# EAGLE library part FT232R (library icmi-ics)
FT232R USB UART IC
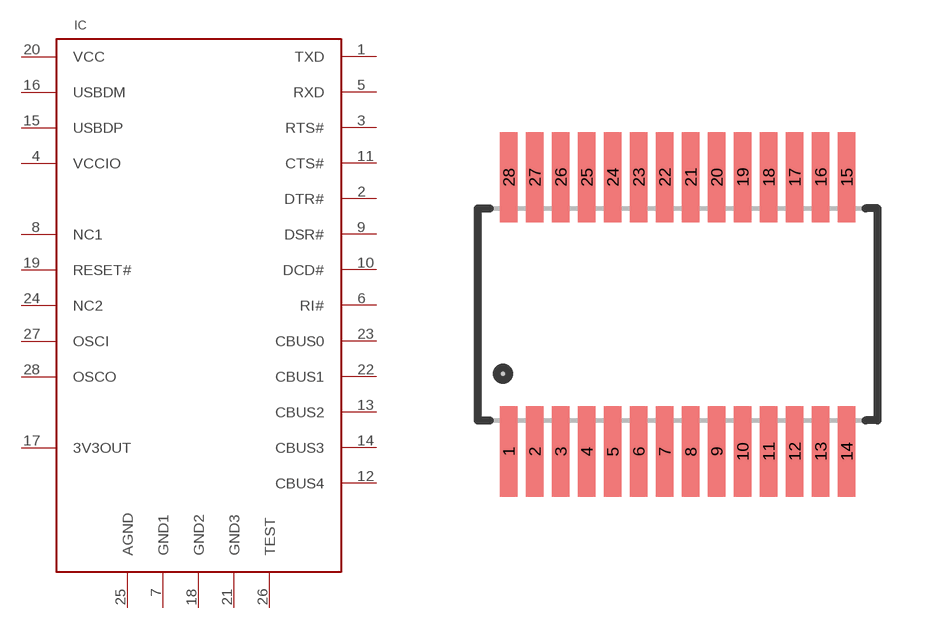
[diagram p6: symbol with the pads of SSO-28; footprint SSO-28]

Designator prefix IC

## FT232R-SSOP28  [SSO-28]
1  TXD
2  DTR#
3  RTS#
4  VCCIO
5  RXD
6  RI#
7  GND1
8  NC1  nc
9  DSR#
10  DCD#
11  CTS#
12  CBUS4
13  CBUS2
14  CBUS3
15  USBDP
16  USBDM
17  3V3OUT
18  GND2
19  RESET#
20  VCC  sup
21  GND3
22  CBUS1
23  CBUS0
24  NC2  nc
25  AGND
26  TEST
27  OSCI
28  OSCO

## Footprint SSO-28 (pad centres in mm)
SSOP-28
smd 0.432 x 2.261: 1 -4.227,-3.429; 2 -3.576,-3.429; 3 -2.926,-3.429; 4 -2.276,-3.429; 5 -1.626,-3.429; 6 -0.975,-3.429; 7 -0.325,-3.429; 8 0.325,-3.429; 9 0.975,-3.429; 10 1.626,-3.429; 11 2.276,-3.429; 12 2.926,-3.429; 13 3.576,-3.429; 14 4.227,-3.429; 15 4.227,3.429; 16 3.576,3.429; 17 2.926,3.429; 18 2.276,3.429; 19 1.626,3.429; 20 0.975,3.429; 21 0.325,3.429; 22 -0.325,3.429; 23 -0.975,3.429; 24 -1.626,3.429; 25 -2.276,3.429; 26 -2.926,3.429; 27 -3.576,3.429; 28 -4.227,3.429